# Altium footprint library C1608X7R1H104K080DA.PcbLib: 3 footprints
Each footprint in its own frame and in the unit in brackets; x right, y up, seen from the top. Pads: shape width x height; smd on the part's side, far side on the other; paste and mask are expansions set on the pad; w line width, h text height; cw(c..) or ccw(c..) is an arc to the next point about the centre after c.
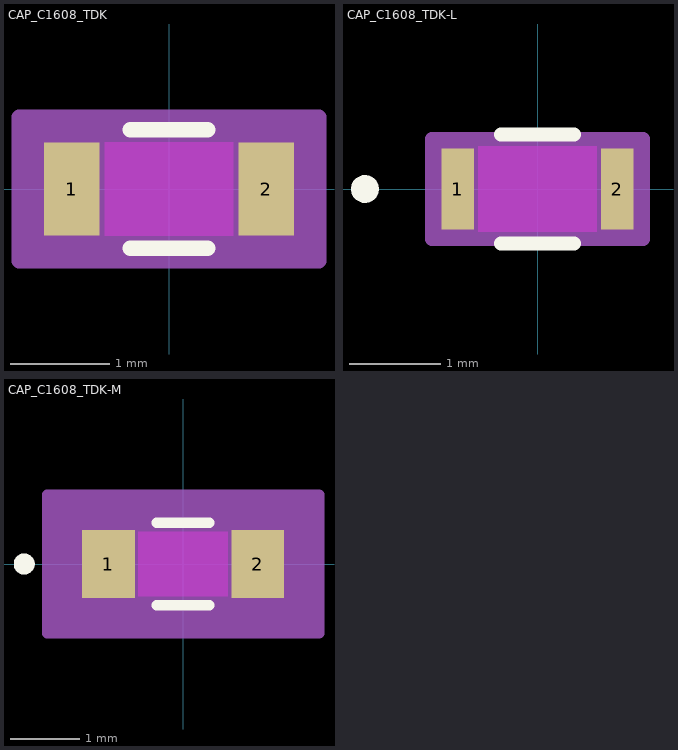
[diagram p0: the footprints below, top view; thin cyan lines are the x and y axes]

## CAP_C1608_TDK [mil]
pads (2):
  rect 22x37 smd paste+0 mask+0: 1(-38.5,0) 2(38.5,0)
Top Layer keep-out:
  region: -25.5,-16.5 -25.5,16.5 25.5,16.5 25.5,-16.5
Top Overlay:
  lines w6: -15.39,-23.5 15.39,-23.5 ; -15.39,23.5 15.39,23.5
  text ".Designator" at -137.5,-25 h50
Keep-Out Layer:
  region: -25.5,-18.5 -25.5,18.5 25.5,18.5 25.5,-18.5
Mechanical 13:
  circle w1: c-33.5,0 r0
  lines w1: -35.5,-18.5 -35.5,18.5 ; -35.5,-18.5 -27.5,-18.5 -27.5,18.5 -35.5,18.5 ; -35.5,-18.5 35.5,-18.5 ; -35.5,-18.5 -35.5,18.5 ; -35.5,18.5 35.5,18.5 ; 35.5,-18.5 27.5,-18.5 27.5,18.5 35.5,18.5 ; 35.5,-18.5 35.5,18.5 ; 35.5,-18.5 35.5,18.5
  text ".Designator" at -137.5,-25 h50
Mechanical 15:
  region: 59.5,-28.5 -59.5,-28.5 -59.5,28.5 59.5,28.5
  lines w6: -59.5,-28.5 -59.5,28.5 59.5,28.5 59.5,-28.5 -59.5,-28.5
3D body "CAP_C1608_TDK.step": height 37.01, standoff 0, extent -35.51,-18.5 35.51,18.5

## CAP_C1608_TDK-L [mil]
pads (2):
  rect 14x35 smd paste+0 mask+0: 1(-34.5,0) 2(34.5,0)
Top Layer keep-out:
  region: -25.5,-16.5 -25.5,16.5 25.5,16.5 25.5,-16.5
Top Overlay:
  circle w6: c-74.5,0 r3
  lines w6: -15.85,-23.5 15.85,-23.5 ; -15.85,23.5 15.85,23.5
  text ".Designator" at -137.5,-25 h50
Keep-Out Layer:
  region: -25.5,-18.5 -25.5,18.5 25.5,18.5 25.5,-18.5
Mechanical 13:
  circle w1: c-29.5,0 r3
  lines w1: -35.5,-18.5 -35.5,18.5 ; -35.5,-18.5 -27.5,-18.5 -27.5,18.5 -35.5,18.5 ; -35.5,-18.5 35.5,-18.5 ; -35.5,-18.5 -35.5,18.5 ; -35.5,18.5 35.5,18.5 ; 35.5,-18.5 27.5,-18.5 27.5,18.5 35.5,18.5 ; 35.5,-18.5 35.5,18.5 ; 35.5,-18.5 35.5,18.5
  text ".Designator" at -137.5,-25 h50
Mechanical 15:
  region: 45.5,-21.5 -45.5,-21.5 -45.5,21.5 45.5,21.5
  lines w6: -45.5,-21.5 -45.5,21.5 45.5,21.5 45.5,-21.5 -45.5,-21.5
3D body "CAP_C1608_TDK.step": height 37.01, standoff 0, extent -35.51,-18.5 35.51,18.5

## CAP_C1608_TDK-M [mil]
pads (2):
  rect 30x39 smd paste+0 mask+0: 1(-42.5,0) 2(42.5,0)
Top Layer keep-out:
  region: -25.5,-16.5 -25.5,16.5 25.5,16.5 25.5,-16.5
Top Overlay:
  circle w6: c-90.5,0 r3
  lines w6: -15.03,-23.5 15.03,-23.5 ; -15.03,23.5 15.03,23.5
  text ".Designator" at -137.5,-25 h50
Keep-Out Layer:
  region: -25.5,-18.5 -25.5,18.5 25.5,18.5 25.5,-18.5
Mechanical 13:
  circle w1: c-37.5,0 r3
  lines w1: -35.5,-18.5 -35.5,18.5 ; -35.5,-18.5 -27.5,-18.5 -27.5,18.5 -35.5,18.5 ; -35.5,-18.5 35.5,-18.5 ; -35.5,-18.5 -35.5,18.5 ; -35.5,18.5 35.5,18.5 ; 35.5,-18.5 27.5,-18.5 27.5,18.5 35.5,18.5 ; 35.5,-18.5 35.5,18.5 ; 35.5,-18.5 35.5,18.5
  text ".Designator" at -137.5,-25 h50
Mechanical 15:
  region: 77.5,-39.5 -77.5,-39.5 -77.5,39.5 77.5,39.5
  lines w6: -77.5,-39.5 -77.5,39.5 77.5,39.5 77.5,-39.5 -77.5,-39.5
3D body "CAP_C1608_TDK.step": height 37.01, standoff 0, extent -35.51,-18.5 35.51,18.5